# Altium schematic symbol library CD4049.SchLib: 1 symbol
Pins are listed as number, name and electrical type; pins without a type are passive.

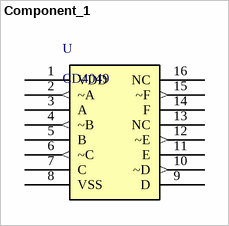
[diagram p0: symbol Component_1]

## Component_1
designator U, comment CD4049
footprint SOP16_L (10.3*6.2*1.8mm（长宽高）)
footprint SOP16_M (10.3*6.2*1.8mm（长宽高）)
footprint SOP16_N (10.3*6.2*1.8mm（长宽高）)
pins: 1 VDD, 2 ~A (out), 3 A, 4 ~B (out), 5 B, 6 ~C (out), 7 C, 8 VSS, 9 D, 10 ~D (out), 11 E, 12 ~E (out), 13 NC, 14 F, 15 ~F (out), 16 NC